# EAGLE library part FT4232H (library U-Transceiver)
FT4232H Quad High Speed USB to Multipurpose UART
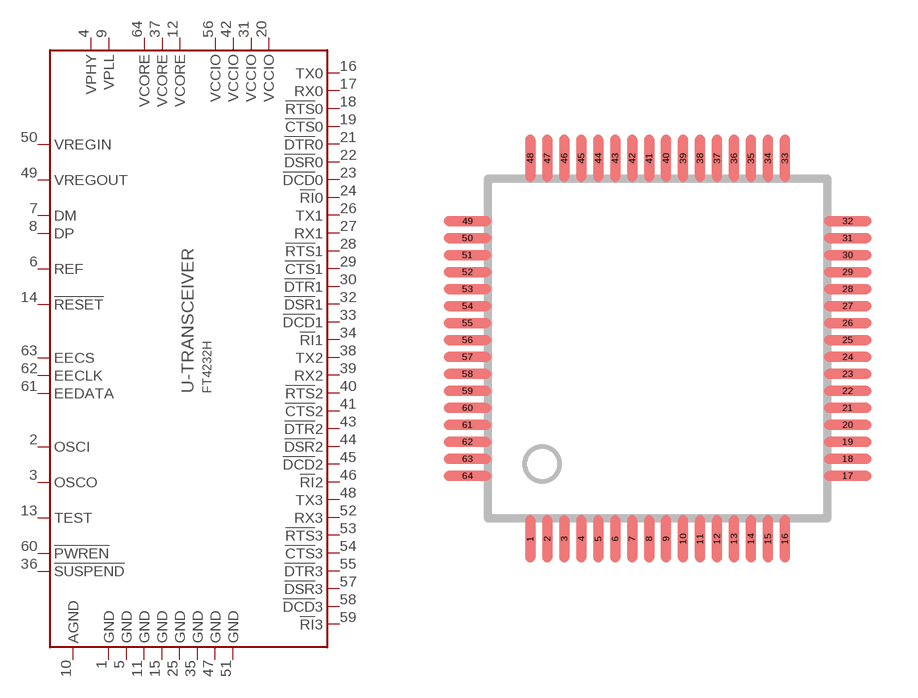
[diagram p5: symbol with the pads of 64LQFP; footprint 64LQFP]

Designator prefix U-TRANSCEIVER

## FT4232HL  [64LQFP]
1  GND  out
2  OSCI  in
3  OSCO  out
4  VPHY  out
5  GND  in
6  REF  pwr
7  DM  in
8  DP  in
9  VPLL  out
10  AGND  out
11  GND  pwr
12  VCORE  out
13  TEST  in
14  !RESET!  out
15  GND  out
16  TX0  in
17  RX0  out
18  !RTS!0  in
19  !CTS!0  out
20  VCCIO  out
21  !DTR!0  out
22  !DSR!0  in
23  !DCD!0  pas
24  !RI!0  pas
25  GND  out
26  TX1  in
27  RX1  out
28  !RTS!1  in
29  !CTS!1  out
30  !DTR!1  pwr
31  VCCIO  out
32  !DSR!1  pas
33  !DCD!1  pas
34  !RI!1  pas
35  GND  out
36  !SUSPEND!  out
37  VCORE  out
38  TX2  in
39  RX2  out
40  !RTS!2  in
41  !CTS!2  out
42  VCCIO  out
43  !DTR!2  pwr
44  !DSR!2  pas
45  !DCD!2  pas
46  !RI!2  pas
47  GND  out
48  TX3  in
49  VREGOUT  out
50  VREGIN  out
51  GND  out
52  RX3  out
53  !RTS!3  in
54  !CTS!3  out
55  !DTR!3  pwr
56  VCCIO  out
57  !DSR!3  pas
58  !DCD!3  pas
59  !RI!3  pas
60  !PWREN!  out
61  EEDATA  pas
62  EECLK  pas
63  EECS  pas
64  VCORE  out

## Footprint 64LQFP (pad centres in mm)
64POS Low Profile Quad Flat Pack (LPQFP)
smd 0.29 x 1.4: 1 -3.75,-5.6; 2 -3.25,-5.6; 3 -2.75,-5.6; 4 -2.25,-5.6; 5 -1.75,-5.6; 6 -1.25,-5.6; 7 -0.75,-5.6; 8 -0.25,-5.6; 9 0.25,-5.6; 10 0.75,-5.6; 11 1.25,-5.6; 12 1.75,-5.6; 13 2.25,-5.6; 14 2.75,-5.6; 15 3.25,-5.6; 16 3.75,-5.6; 33 3.75,5.6; 34 3.25,5.6; 35 2.75,5.6; 36 2.25,5.6; 37 1.75,5.6; 38 1.25,5.6; 39 0.75,5.6; 40 0.25,5.6; 41 -0.25,5.6; 42 -0.75,5.6; 43 -1.25,5.6; 44 -1.75,5.6; 45 -2.25,5.6; 46 -2.75,5.6; 47 -3.25,5.6; 48 -3.75,5.6
smd 1.4 x 0.29: 17 5.6,-3.75; 18 5.6,-3.25; 19 5.6,-2.75; 20 5.6,-2.25; 21 5.6,-1.75; 22 5.6,-1.25; 23 5.6,-0.75; 24 5.6,-0.25; 25 5.6,0.25; 26 5.6,0.75; 27 5.6,1.25; 28 5.6,1.75; 29 5.6,2.25; 30 5.6,2.75; 31 5.6,3.25; 32 5.6,3.75; 49 -5.6,3.75; 50 -5.6,3.25; 51 -5.6,2.75; 52 -5.6,2.25; 53 -5.6,1.75; 54 -5.6,1.25; 55 -5.6,0.75; 56 -5.6,0.25; 57 -5.6,-0.25; 58 -5.6,-0.75; 59 -5.6,-1.25; 60 -5.6,-1.75; 61 -5.6,-2.25; 62 -5.6,-2.75; 63 -5.6,-3.25; 64 -5.6,-3.75